# Altium footprint library SM15B-GHS-TB(LF)(SN).PcbLib: 1 footprints
Each footprint in its own frame and in the unit in brackets; x right, y up, seen from the top. Pads: shape width x height; smd on the part's side, far side on the other; paste and mask are expansions set on the pad; w line width, h text height; cw(c..) or ccw(c..) is an arc to the next point about the centre after c.
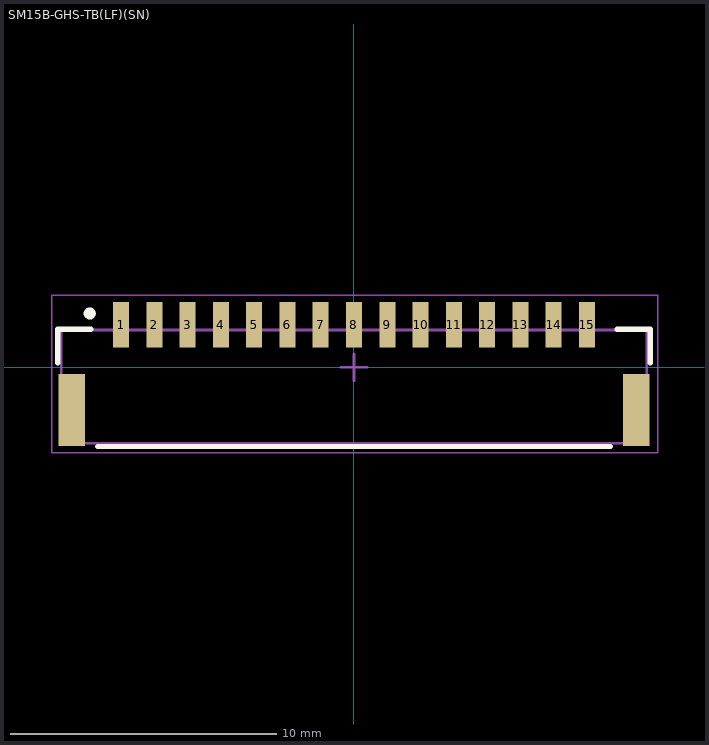
[diagram p0: the footprint, top view; thin cyan lines are the x and y axes]

## SM15B-GHS-TB(LF)(SN) [mm]
pads (17):
  rect 0.6x1.7 smd: 1(-8.75,1.6) 2(-7.5,1.6) 3(-6.25,1.6) 4(-5,1.6) 5(-3.75,1.6) 6(-2.5,1.6) 7(-1.25,1.6) 8(0,1.6) 9(1.25,1.6) 10(2.5,1.6) 11(3.75,1.6) 12(5,1.6) 13(6.25,1.6) 14(7.5,1.6) 15(8.75,1.6)
  rect 1x2.7 smd: ""(-10.6,-1.6) ""(10.6,-1.6)
Top Overlay:
  circle w0.254: c-9.925,2.025 r0.1
  lines w0.2: -11.125,0.175 -11.125,1.425 -9.875,1.425 ; -9.625,-2.975 9.625,-2.975 ; 9.875,1.425 11.125,1.425 11.125,0.175
Mechanical 1:
  lines w0.1: -11,-2.85 11,-2.85 11,1.4 -11,1.4 -11,-2.85
  text ".Designator" at -3.374,-1.458 h0.65
Mechanical 2:
  lines w0.05: -11.35,-3.2 -11.35,2.7 11.4,2.7 11.4,-3.2 -11.35,-3.2
  lines w0.1: -0.5,0 0.5,0 ; 0,-0.5 0,0.5
3D body "SM15B-GHS-TB.STEP": height 4.35, standoff 0, extent -11,-2.85 11,2